# EAGLE library part LM358 (library innove-opamps)
LM258 Operational Amplifier, Dual, 2 Amplifier, 700 kHz, 0.3 V/µs, 3V to 32V, ± 1.5V to ± 16V Source: https://www.ti.com/product/LM258
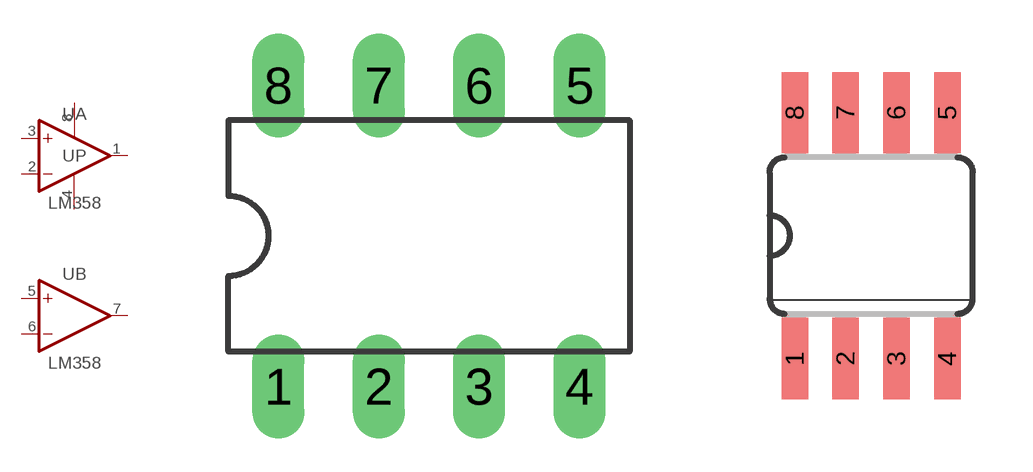
[diagram p1: symbol with the pads of DIP-8; footprints DIP-8, SO08]

Designator prefix U; gates A=OPAMP B=OPAMP P=PWR+-

## LM358P  [DIP-8]
1  A:OUT  out
2  A:-IN  in
3  A:+IN  in
4  P:V-  pwr
5  B:+IN  in
6  B:-IN  in
7  B:OUT  out
8  P:V+  pwr

## LM358ADR  [SO08]
Pads as for DIP-8

## Footprint DIP-8 (pad centres in mm)
Dual In Line Package
drill 0.813 pad 1.27 long: 1 -3.81,-3.81; 2 -1.27,-3.81; 3 1.27,-3.81; 4 3.81,-3.81; 5 3.81,3.81; 6 1.27,3.81; 7 -1.27,3.81; 8 -3.81,3.81

## Footprint SO08 (pad centres in mm)
Small Outline package 150 mil
smd 0.66 x 2.032: 1 -1.905,-3.073; 2 -0.635,-3.073; 3 0.635,-3.073; 4 1.905,-3.073; 5 1.905,3.073; 6 0.635,3.073; 7 -0.635,3.073; 8 -1.905,3.073